# Altium schematic symbol library EVQ-PNF05M.SchLib: 1 symbol
Pins are listed as number, name and electrical type; pins without a type are passive.

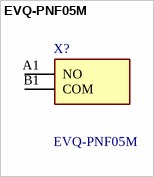
[diagram p0: symbol EVQ-PNF05M]

## EVQ-PNF05M
designator X?
Natural Push Plate Tactile Switch, Single Pole Single Throw (SPST) 20 mA @ 15 V dc 3mm Surface Mount; Manufacturer_Name: Panasonic; Geometry.Height: 5mm; Mouser Part Number: 667-EVQ-PNF05M; Mouser Price/Stock: https://www.mouser.co.uk/ProductDetail/Panasonic/EVQ-PNF05M?qs=whhzBCqEXCurM07rIvhu9w%3D%3D; Manufacturer_Part_Number: EVQ-PNF05M; Datasheet Link: https://na.industrial.panasonic.com/file-download/245140
footprint EVQPNF05M
pins: A1 NO, B1 COM